# EAGLE library part ADAFRUIT_MPL3115A2_BAROMETER (library AERO_Eagle_Library)
Adafruit's Barometer and Environment Sensing: MPL3115A2 https://www.adafruit.com/product/1893
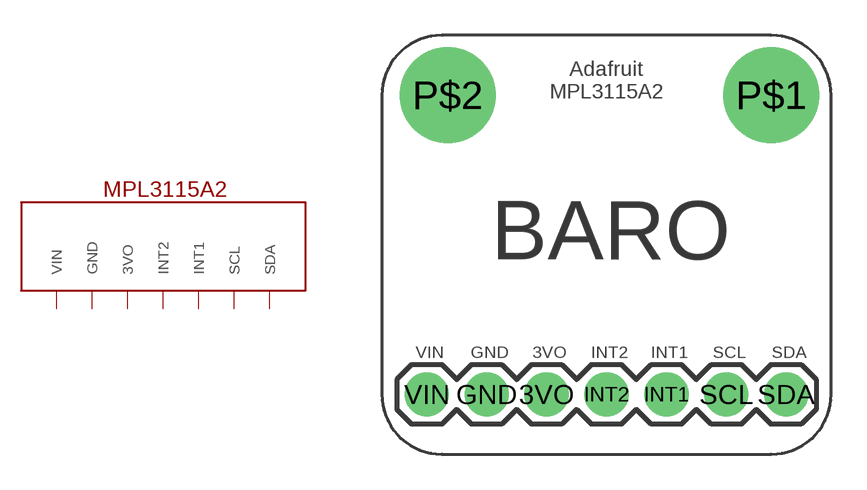
[diagram p3: symbol with the pads of ADAFRUIT_MPL3115A2_BAROMETER; footprint ADAFRUIT_MPL3115A2_BAROMETER]

Designator prefix U

## ADAFRUIT_MPL3115A2_BAROMETER  [ADAFRUIT_MPL3115A2_BAROMETER]
3VO  3VO
GND  GND
INT1  INT1
INT2  INT2
SCL  SCL
SDA  SDA
VIN  VIN

## Footprint ADAFRUIT_MPL3115A2_BAROMETER (pad centres in mm)
Adafruit's Barometer and Environment Sensing: MPL3115A2 https://www.adafruit.com/product/1893
drill 1.016 pad 1.88: 3VO 6.985,2.54; GND 4.445,2.54; INT1 12.065,2.54; INT2 9.525,2.54; SCL 14.605,2.54; SDA 17.145,2.54; VIN 1.905,2.54
drill 2.54 pad 4.064: P$1 16.51,15.24; P$2 2.794,15.24